# Altium schematic symbol library SiliconLabs.SchLib: 1 symbol
Pins are listed as number, name and electrical type; pins without a type are passive.

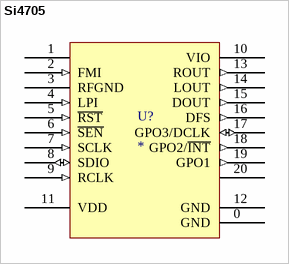
[diagram p0: symbol Si4705]

## Si4705
designator U?
footprint QFN50P300X300X60-20N (QFN, 20-Leads, Body 3,0x3,0mm (max), Pitch 0,50mm, IPC Medium Density)
pins: 0 GND (power), 1 NC, 2 FMI (in), 3 RFGND (power), 4 LPI (in), 5 ~{RST} (in), 6 ~{SEN} (in), 7 SCLK (in), 8 SDIO (io), 9 RCLK (in), 10 VIO (power), 11 VDD (power), 12 GND (power), 13 ROUT (out), 14 LOUT (out), 15 DOUT (out), 16 DFS (out), 17 GPO3/DCLK (io), 18 GPO2/~{INT} (out), 19 GPO1 (out), 20 NC